# Altium footprint library ADL5545ARKZ-R7.PcbLib: 1 footprints
Each footprint in its own frame and in the unit in brackets; x right, y up, seen from the top. Pads: shape width x height; smd on the part's side, far side on the other; paste and mask are expansions set on the pad; w line width, h text height; cw(c..) or ccw(c..) is an arc to the next point about the centre after c.
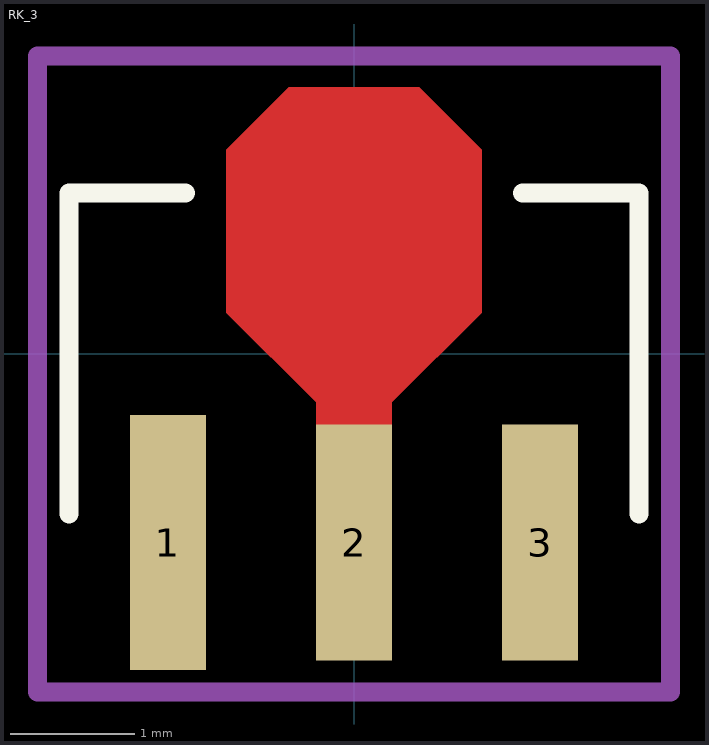
[diagram p0: the footprint, top view; thin cyan lines are the x and y axes]

## RK_3 [mil]
pads (3):
  rect 24x81 smd: 1(-59.06,-60)
  rect 24x75 smd: 2(0,-60) 3(59.06,-60)
Top Layer:
  region: 12,-52 -12,-52 -12,-15.5 -40.5,13 -40.5,64.75 -20.75,84.5 20.75,84.5 40.5,64.75 40.5,13 12,-15.5
Top Overlay:
  lines w6: -90.5,-51 -90.5,51 -53.5,51 ; 53.5,51 90.5,51 90.5,-51
Top Paste:
  region: 12,-52 -12,-52 -12,-15.5 -40.5,13 -40.5,64.75 -20.75,84.5 20.75,84.5 40.5,64.75 40.5,13 12,-15.5
Top Solder:
  region: 13,-53 -13,-53 -13,-16.5 -41.5,12 -41.5,65.75 -21.75,85.5 21.75,85.5 41.5,65.75 41.5,12 13,-16.5
Mechanical 15:
  lines w6: -100.5,-107.5 100.5,-107.5 100.5,94.5 -100.5,94.5 -100.5,-107.5
3D body: height 10, standoff 0, extent 0,0 10,10